# Altium footprint library Pcblib_20110825.Pcblib: 407 footprints (part 22 of 26)
Each footprint in its own frame and in the unit in brackets; x right, y up, seen from the top. Pads: shape width x height; smd on the part's side, far side on the other; paste and mask are expansions set on the pad; w line width, h text height; cw(c..) or ccw(c..) is an arc to the next point about the centre after c.
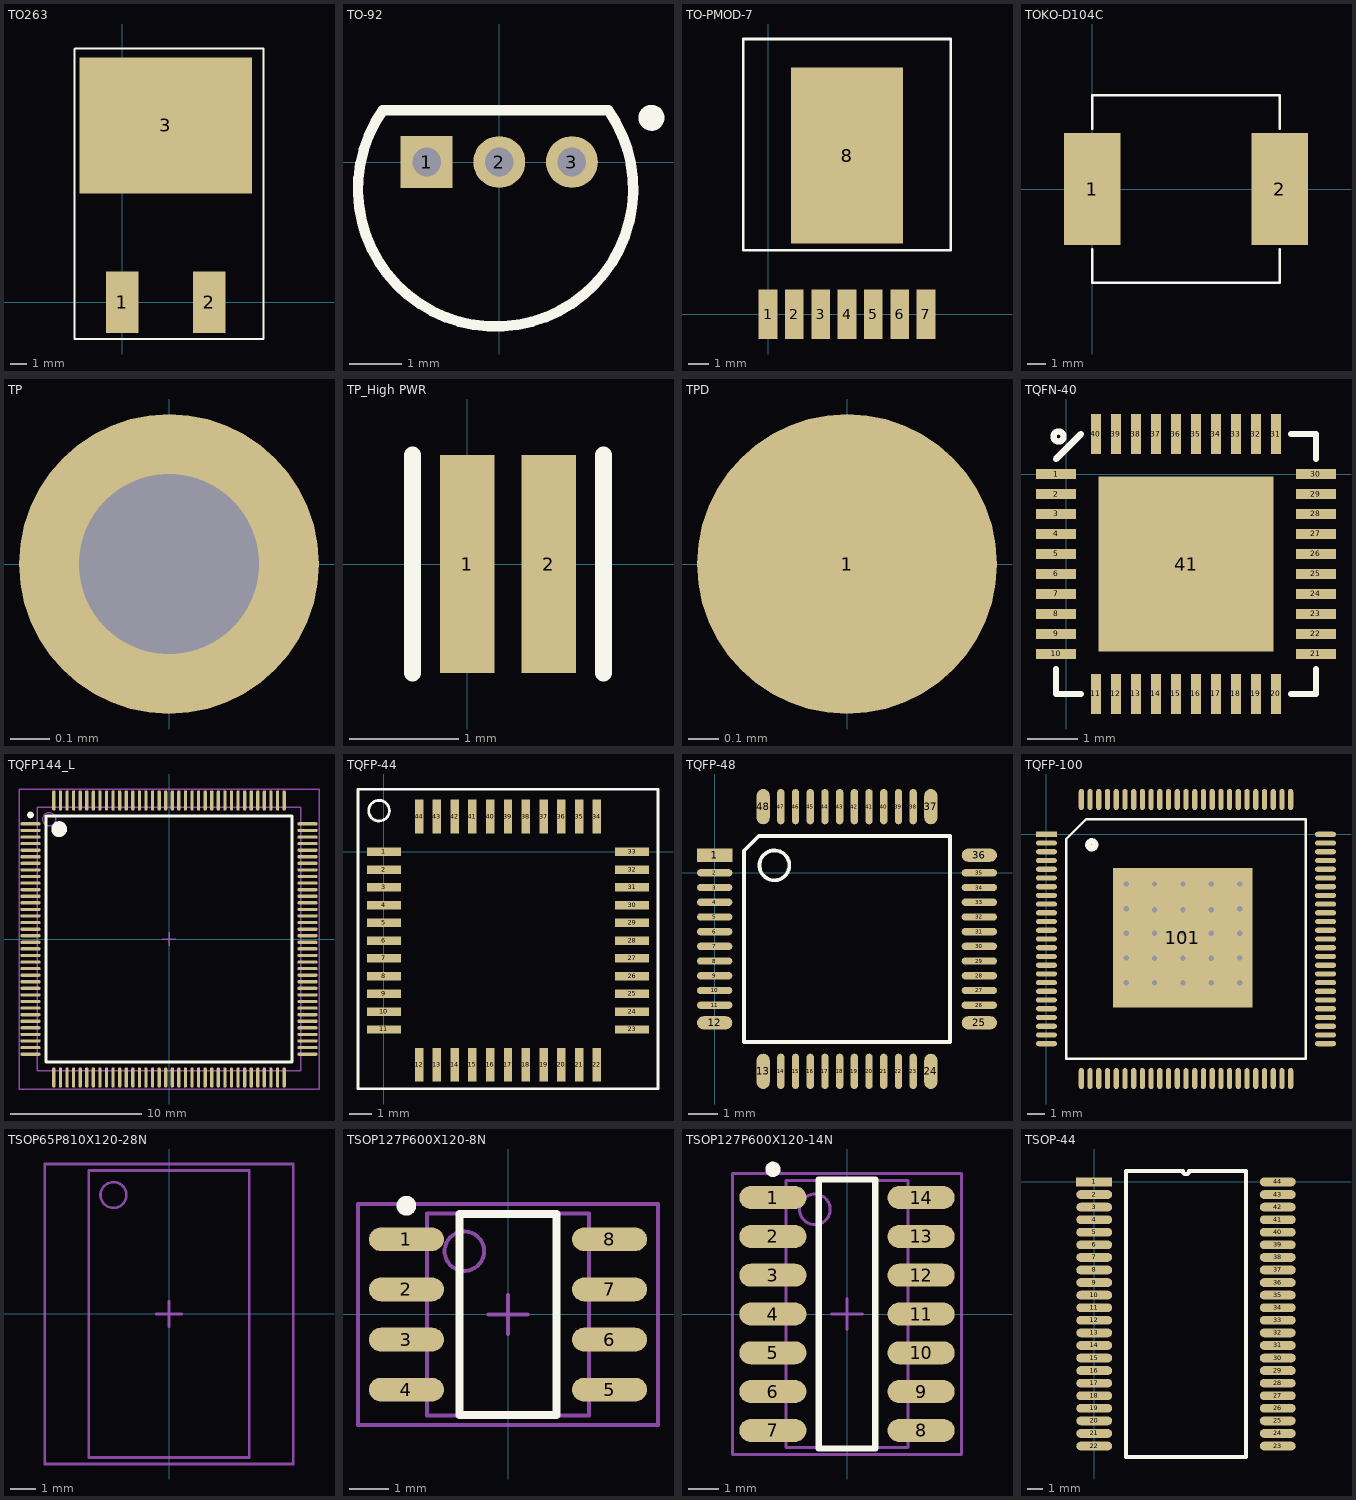
[diagram p21: the footprints below, top view; thin cyan lines are the x and y axes]

## TO263 [mm]
pads (3):
  rect 2x3.8 smd: 1(0,0) 2(5.34,0)
  rect 10.66x8.38 smd: 3(2.67,10.91)
TopOverlay:
  lines w0.127: -2.946,-2.261 8.687,-2.261 8.687,15.646 -2.921,15.646 -2.946,15.621 -2.946,-2.261

## TO-92 [mm]
pads (3):
  rect 1x1 hole 0.55: 1(-1.4,0)
  round 1 hole 0.55: 2(0,0) 3(1.4,0)
TopOverlay:
  circle w0.25: c2.932,0.851 r0.125
  lines w0.2: -2.242,1 ccw(c-0.071,-0.52) 2.1,1 -2.242,1

## TO-PMOD-7 [mm]
pads (8):
  rect 0.9x2.4 smd: 1(0,0) 2(1.27,0) 3(2.54,0) 4(3.81,0) 5(5.08,0) 6(6.35,0) 7(7.62,0)
  rect 5.4x8.5 smd: 8(3.81,7.65)
TopOverlay:
  lines w0.127: -1.19,3.075 -1.19,13.275 8.81,13.275 8.81,3.075 -1.19,3.075

## TOKO-D104C [mm]
pads (2):
  rect 3x6 smd: 1(0,0) 2(10,0)
TopOverlay:
  lines w0.127: 0,-3.2 0,-5 10,-5 10,-3.2 ; 0,3.2 0,5 10,5 10,3.2

## TP [mil]
pads (1):
  round 30 hole 18: ""(0,0)

## TP_High PWR [mm]
height 1.016
pads (2):
  rect 0.5x2 smd: 1(0,0) 2(0.75,0)
TopOverlay:
  lines w0.152: -0.5,-1 -0.5,1 ; 1.25,-1 1.25,1

## TPD [mm]
height 1.4
pads (1):
  round 1 smd: 1(0,0)

## TQFN-40 [mm]
pads (41):
  rect 0.8x0.2 smd: 1(-0.2,0) 2(-0.2,-0.4) 3(-0.2,-0.8) 4(-0.2,-1.2) 5(-0.2,-1.6) 6(-0.2,-2) 7(-0.2,-2.4) 8(-0.2,-2.8) 9(-0.2,-3.2) 10(-0.2,-3.6) 21(5,-3.6) 22(5,-3.2) 23(5,-2.8) 24(5,-2.4) 25(5,-2) 26(5,-1.6) 27(5,-1.2) 28(5,-0.8) 29(5,-0.4) 30(5,0)
  rect 0.2x0.8 smd: 11(0.6,-4.4) 12(1,-4.4) 13(1.4,-4.4) 14(1.8,-4.4) 15(2.2,-4.4) 16(2.6,-4.4) 17(3,-4.4) 18(3.4,-4.4) 19(3.8,-4.4) 20(4.2,-4.4) 31(4.2,0.8) 32(3.8,0.8) 33(3.4,0.8) 34(3,0.8) 35(2.6,0.8) 36(2.2,0.8) 37(1.8,0.8) 38(1.4,0.8) 39(1,0.8) 40(0.6,0.8)
  rect 3.5x3.5 smd: 41(2.4,-1.8)
TopOverlay:
  circle w0.127: c-0.15,0.75 r0.1
  lines w0.127: -0.2,-3.9 -0.2,-4.4 0.3,-4.4 ; -0.2,0.3 0.3,0.8 ; 4.5,-4.4 5,-4.4 5,-3.9 ; 4.5,0.8 5,0.8 5,0.3

## TQFP144_L [mm] "Thin QFP, 144-Leads, Body 20x20mm, Pitch 0.5mm, IPC High Density"
height 1.6
pads (144):
  oval 1.55x0.25 smd: 1(-10.525,8.75) 2(-10.525,8.25) 3(-10.525,7.75) 4(-10.525,7.25) 5(-10.525,6.75) 6(-10.525,6.25) 7(-10.525,5.75) 8(-10.525,5.25) 9(-10.525,4.75) 10(-10.525,4.25) 11(-10.525,3.75) 12(-10.525,3.25) 13(-10.525,2.75) 14(-10.525,2.25) 15(-10.525,1.75) 16(-10.525,1.25) 17(-10.525,0.75) 18(-10.525,0.25) 19(-10.525,-0.25) 20(-10.525,-0.75) 21(-10.525,-1.25) 22(-10.525,-1.75) 23(-10.525,-2.25) 24(-10.525,-2.75) 25(-10.525,-3.25) 26(-10.525,-3.75) 27(-10.525,-4.25) 28(-10.525,-4.75) 29(-10.525,-5.25) 30(-10.525,-5.75) 31(-10.525,-6.25) 32(-10.525,-6.75) 33(-10.525,-7.25) 34(-10.525,-7.75) 35(-10.525,-8.25) 36(-10.525,-8.75) 73(10.525,-8.75) 74(10.525,-8.25) 75(10.525,-7.75) 76(10.525,-7.25) 77(10.525,-6.75) 78(10.525,-6.25) 79(10.525,-5.75) 80(10.525,-5.25) 81(10.525,-4.75) 82(10.525,-4.25) 83(10.525,-3.75) 84(10.525,-3.25) 85(10.525,-2.75) 86(10.525,-2.25) 87(10.525,-1.75) 88(10.525,-1.25) 89(10.525,-0.75) 90(10.525,-0.25) 91(10.525,0.25) 92(10.525,0.75) 93(10.525,1.25) 94(10.525,1.75) 95(10.525,2.25) 96(10.525,2.75) 97(10.525,3.25) 98(10.525,3.75) 99(10.525,4.25) 100(10.525,4.75) 101(10.525,5.25) 102(10.525,5.75) 103(10.525,6.25) 104(10.525,6.75) 105(10.525,7.25) 106(10.525,7.75) 107(10.525,8.25) 108(10.525,8.75)
  oval 0.25x1.55 smd: 37(-8.75,-10.525) 38(-8.25,-10.525) 39(-7.75,-10.525) 40(-7.25,-10.525) 41(-6.75,-10.525) 42(-6.25,-10.525) 43(-5.75,-10.525) 44(-5.25,-10.525) 45(-4.75,-10.525) 46(-4.25,-10.525) 47(-3.75,-10.525) 48(-3.25,-10.525) 49(-2.75,-10.525) 50(-2.25,-10.525) 51(-1.75,-10.525) 52(-1.25,-10.525) 53(-0.75,-10.525) 54(-0.25,-10.525) 55(0.25,-10.525) 56(0.75,-10.525) 57(1.25,-10.525) 58(1.75,-10.525) 59(2.25,-10.525) 60(2.75,-10.525) 61(3.25,-10.525) 62(3.75,-10.525) 63(4.25,-10.525) 64(4.75,-10.525) 65(5.25,-10.525) 66(5.75,-10.525) 67(6.25,-10.525) 68(6.75,-10.525) 69(7.25,-10.525) 70(7.75,-10.525) 71(8.25,-10.525) 72(8.75,-10.525) 109(8.75,10.525) 110(8.25,10.525) 111(7.75,10.525) 112(7.25,10.525) 113(6.75,10.525) 114(6.25,10.525) 115(5.75,10.525) 116(5.25,10.525) 117(4.75,10.525) 118(4.25,10.525) 119(3.75,10.525) 120(3.25,10.525) 121(2.75,10.525) 122(2.25,10.525) 123(1.75,10.525) 124(1.25,10.525) 125(0.75,10.525) 126(0.25,10.525) 127(-0.25,10.525) 128(-0.75,10.525) 129(-1.25,10.525) 130(-1.75,10.525) 131(-2.25,10.525) 132(-2.75,10.525) 133(-3.25,10.525) 134(-3.75,10.525) 135(-4.25,10.525) 136(-4.75,10.525) 137(-5.25,10.525) 138(-5.75,10.525) 139(-6.25,10.525) 140(-6.75,10.525) 141(-7.25,10.525) 142(-7.75,10.525) 143(-8.25,10.525) 144(-8.75,10.525)
TopOverlay:
  circle w0.6: c-8.35,8.35 r0.3
  circle w0.25: c-10.525,9.425 r0.125
  lines w0.2: -9.35,-9.35 9.35,-9.35 9.35,9.35 -9.35,9.35 -9.35,-9.35
Mechanical13:
  circle w0.1: c-9.1,9.1 r0.5
  lines w0.1: -10,-10 10,-10 10,10 -10,10 -10,-10
Mechanical15:
  lines w0.1: -0.5,0 0.5,0 ; 0,-0.5 0,0.5 ; -11.4,-11.4 11.4,-11.4 11.4,11.4 -11.4,11.4 -11.4,-11.4
3D body: height 1.6, standoff 0, extent -10,-10 10,10

## TQFP-44 [mil]
pads (44):
  rect 60x15 smd: 1(-0.01,-0.03) 2(-0.01,-31.53) 3(-0.01,-63.02) 4(-0.01,-94.52) 5(-0.01,-126.02) 6(-0.01,-157.51) 7(-0.01,-189.01) 8(-0.01,-220.5) 9(-0.01,-252) 10(-0.01,-283.5) 11(-0.01,-314.99) 23(439.99,-314.99) 24(439.99,-283.5) 25(439.99,-252) 26(439.99,-220.5) 27(439.99,-189.01) 28(439.99,-157.51) 29(439.99,-126.02) 30(439.99,-94.52) 31(439.99,-63.02) 32(439.99,-31.53) 33(439.99,-0.03)
  rect 15x60 smd: 12(62.51,-377.51) 13(94.01,-377.51) 14(125.5,-377.51) 15(157,-377.51) 16(188.5,-377.51) 17(219.99,-377.51) 18(251.49,-377.51) 19(282.98,-377.51) 20(314.48,-377.51) 21(345.98,-377.51) 22(377.47,-377.51) 34(377.47,62.49) 35(345.98,62.49) 36(314.48,62.49) 37(282.98,62.49) 38(251.49,62.49) 39(219.99,62.49) 40(188.5,62.49) 41(157,62.49) 42(125.5,62.49) 43(94.01,62.49) 44(62.51,62.49)
TopOverlay:
  circle w5: c-8.67,72.97 r18.34
  lines w5: -46.01,-420.03 -46.01,49.97 -46.01,110.97 15.99,110.97 485.99,110.97 485.99,-420.03 -46.01,-420.03

## TQFP-48 [mm]
pads (48):
  rect 1.2x0.45 smd: 1(0,0.6)
  oval 1.2x0.25 smd: 2(0,0) 3(0,-0.5) 4(0,-1) 5(0,-1.5) 6(0,-2) 7(0,-2.5) 8(0,-3) 9(0,-3.5) 10(0,-4) 11(0,-4.5) 26(9,-4.5) 27(9,-4) 28(9,-3.5) 29(9,-3) 30(9,-2.5) 31(9,-2) 32(9,-1.5) 33(9,-1) 34(9,-0.5) 35(9,0)
  oval 1.2x0.45 smd: 12(0,-5.1) 25(9,-5.1) 36(9,0.6)
  oval 0.45x1.2 smd: 13(1.65,-6.75) 24(7.35,-6.75) 37(7.35,2.25) 48(1.65,2.25)
  oval 0.25x1.2 smd: 14(2.25,-6.75) 15(2.75,-6.75) 16(3.25,-6.75) 17(3.75,-6.75) 18(4.25,-6.75) 19(4.75,-6.75) 20(5.25,-6.75) 21(5.75,-6.75) 22(6.25,-6.75) 23(6.75,-6.75) 38(6.75,2.25) 39(6.25,2.25) 40(5.75,2.25) 41(5.25,2.25) 42(4.75,2.25) 43(4.25,2.25) 44(3.75,2.25) 45(3.25,2.25) 46(2.75,2.25) 47(2.25,2.25)
TopOverlay:
  circle w0.127: c2.032,0.254 r0.508
  lines w0.127: 1,-5.75 8,-5.75 8,1.25 1.5,1.25 1,0.75 1,-5.75

## TQFP-100 [mm]
pads (101):
  rect 1.2x0.3 smd: 1(0,0)
  oval 1.2x0.3 smd: 2(0,-0.5) 3(0,-1) 4(0,-1.5) 5(0,-2) 6(0,-2.5) 7(0,-3) 8(0,-3.5) 9(0,-4) 10(0,-4.5) 11(0,-5) 12(0,-5.5) 13(0,-6) 14(0,-6.5) 15(0,-7) 16(0,-7.5) 17(0,-8) 18(0,-8.5) 19(0,-9) 20(0,-9.5) 21(0,-10) 22(0,-10.5) 23(0,-11) 24(0,-11.5) 25(0,-12) 51(16,-12) 52(16,-11.5) 53(16,-11) 54(16,-10.5) 55(16,-10) 56(16,-9.5) 57(16,-9) 58(16,-8.5) 59(16,-8) 60(16,-7.5) 61(16,-7) 62(16,-6.5) 63(16,-6) 64(16,-5.5) 65(16,-5) 66(16,-4.5) 67(16,-4) 68(16,-3.5) 69(16,-3) 70(16,-2.5) 71(16,-2) 72(16,-1.5) 73(16,-1) 74(16,-0.5) 75(16,0)
  oval 0.3x1.2 smd: 26(2,-14) 27(2.5,-14) 28(3,-14) 29(3.5,-14) 30(4,-14) 31(4.5,-14) 32(5,-14) 33(5.5,-14) 34(6,-14) 35(6.5,-14) 36(7,-14) 37(7.5,-14) 38(8,-14) 39(8.5,-14) 40(9,-14) 41(9.5,-14) 42(10,-14) 43(10.5,-14) 44(11,-14) 45(11.5,-14) 46(12,-14) 47(12.5,-14) 48(13,-14) 49(13.5,-14) 50(14,-14) 76(14,2) 77(13.5,2) 78(13,2) 79(12.5,2) 80(12,2) 81(11.5,2) 82(11,2) 83(10.5,2) 84(10,2) 85(9.5,2) 86(9,2) 87(8.5,2) 88(8,2) 89(7.5,2) 90(7,2) 91(6.5,2) 92(6,2) 93(5.5,2) 94(5,2) 95(4.5,2) 96(4,2) 97(3.5,2) 98(3,2) 99(2.5,2) 100(2,2)
  rect 8x8 smd: 101(7.823,-5.918)
via 11.074,-8.509 diameter 0.508 hole 0.305
via 9.449,-8.509 diameter 0.508 hole 0.305
via 7.823,-8.509 diameter 0.508 hole 0.305
via 6.198,-8.509 diameter 0.508 hole 0.305
via 4.572,-8.509 diameter 0.508 hole 0.305
via 11.074,-2.845 diameter 0.508 hole 0.305
via 9.449,-2.845 diameter 0.508 hole 0.305
via 7.823,-2.845 diameter 0.508 hole 0.305
via 6.198,-2.845 diameter 0.508 hole 0.305
via 4.572,-2.845 diameter 0.508 hole 0.305
via 4.572,-4.261 diameter 0.508 hole 0.305
via 6.198,-4.318 diameter 0.508 hole 0.305
via 7.823,-4.318 diameter 0.508 hole 0.305
via 9.449,-4.318 diameter 0.508 hole 0.305
via 11.074,-4.261 diameter 0.508 hole 0.305
via 4.572,-5.677 diameter 0.508 hole 0.305
via 6.198,-5.664 diameter 0.508 hole 0.305
via 7.823,-5.664 diameter 0.508 hole 0.305
via 9.449,-5.664 diameter 0.508 hole 0.305
via 11.074,-5.677 diameter 0.508 hole 0.305
via 4.572,-7.093 diameter 0.508 hole 0.305
via 6.198,-7.112 diameter 0.508 hole 0.305
via 7.823,-7.112 diameter 0.508 hole 0.305
via 9.449,-7.112 diameter 0.508 hole 0.305
via 11.074,-7.093 diameter 0.508 hole 0.305
TopOverlay:
  circle w0.361: c2.6,-0.6 r0.2
  lines w0.127: 1.135,-12.865 14.865,-12.865 14.865,0.865 2.27,0.865 1.135,-0.27 1.135,-12.865

## TSOP65P810X120-28N [mm] "TSOP, 32-Leads, Body 11.1x6.2mm (max), Pitch 0.65mm, IPC Medium Density"
height 1.2
Mechanical13:
  circle w0.1: c-2.15,4.6 r0.5
  lines w0.1: -3.1,-5.55 -3.1,5.55 3.1,5.55 3.1,-5.55 -3.1,-5.55
Mechanical15:
  lines w0.1: -0.5,0 0.5,0 ; 0,-0.5 0,0.5 ; -4.8,-5.8 -4.8,5.8 4.8,5.8 4.8,-5.8 -4.8,-5.8
3D body: height 1.2, standoff 0.1, extent -3.1,-5.55 3.1,5.55

## TSOP127P600X120-8N [mm] "TSOP, 8-Leads, Body 5.1x4.1mm (max), Pitch 1.27mm, IPC Medium Density"
height 1.2
pads (8):
  oval 1.9x0.6 smd: 1(-2.575,1.905) 2(-2.575,0.635) 3(-2.575,-0.635) 4(-2.575,-1.905) 5(2.575,-1.905) 6(2.575,-0.635) 7(2.575,0.635) 8(2.575,1.905)
TopOverlay:
  circle w0.25: c-2.575,2.755 r0.125
  lines w0.2: -1.225,-2.55 1.225,-2.55 1.225,2.55 -1.225,2.55 -1.225,-2.55
Mechanical13:
  circle w0.1: c-1.105,1.605 r0.5
  lines w0.1: -2.055,-2.555 2.055,-2.555 2.055,2.555 -2.055,2.555 -2.055,-2.555
Mechanical15:
  lines w0.1: -0.5,0 0.5,0 ; 0,-0.5 0,0.5 ; -3.8,-2.8 3.8,-2.8 3.8,2.8 -3.8,2.8 -3.8,-2.8
3D body: height 1.2, standoff 0.2, extent -2.055,-2.555 2.055,2.555

## TSOP127P600X120-14N [mm] "TSOP, 14-Leads, Body 8.8x4.0mm (max), Pitch 1.27mm, IPC Medium Density"
height 1.2
pads (14):
  oval 2.2x0.75 smd: 1(-2.425,3.81) 2(-2.425,2.54) 3(-2.425,1.27) 4(-2.425,0) 5(-2.425,-1.27) 6(-2.425,-2.54) 7(-2.425,-3.81) 8(2.425,-3.81) 9(2.425,-2.54) 10(2.425,-1.27) 11(2.425,0) 12(2.425,1.27) 13(2.425,2.54) 14(2.425,3.81)
TopOverlay:
  circle w0.25: c-2.425,4.735 r0.125
  lines w0.2: -0.925,-4.4 0.925,-4.4 0.925,4.4 -0.925,4.4 -0.925,-4.4
Mechanical13:
  circle w0.1: c-1.05,3.425 r0.5
  lines w0.1: -2,-4.375 2,-4.375 2,4.375 -2,4.375 -2,-4.375
Mechanical15:
  lines w0.1: -0.5,0 0.5,0 ; 0,-0.5 0,0.5 ; -3.75,-4.6 3.75,-4.6 3.75,4.6 -3.75,4.6 -3.75,-4.6
3D body: height 1.2, standoff 0.2, extent -2,-4.375 2,4.375

## TSOP-44 [mil]
height 437.01
pads (44):
  rect 90x22 smd: 1(0,0)
  oval 90x22 smd: 2(0,-31.5) 3(0,-63) 4(0,-94.5) 5(0,-126) 6(0,-157.5) 7(0,-189) 8(0,-220.5) 9(0,-252) 10(0,-283.5) 11(0,-315) 12(0,-346.5) 13(0,-378) 14(0,-409.5) 15(0,-441) 16(0,-472.5) 17(0,-504) 18(0,-535.5) 19(0,-567) 20(0,-598.5) 21(0,-630) 22(0,-661.5) 23(460,-661.5) 24(460,-630) 25(460,-598.5) 26(460,-567) 27(460,-535.5) 28(460,-504) 29(460,-472.5) 30(460,-441) 31(460,-409.5) 32(460,-378) 33(460,-346.5) 34(460,-315) 35(460,-283.5) 36(460,-252) 37(460,-220.5) 38(460,-189) 39(460,-157.5) 40(460,-126) 41(460,-94.5) 42(460,-63) 43(460,-31.5) 44(460,0)
TopOverlay:
  lines w10: 80,-689.06 380,-689.06 380,27.56 237.88,27.56 cw(c230,27.56) 222.12,27.56 80,27.56 80,-689.06